# EAGLE library part 482020514001 (library 482020514001)
Mechanical Incremental Encoder Switch, 2 Source: Datasheet <http://uk.rs-online.com/web/p/products/1854446P>
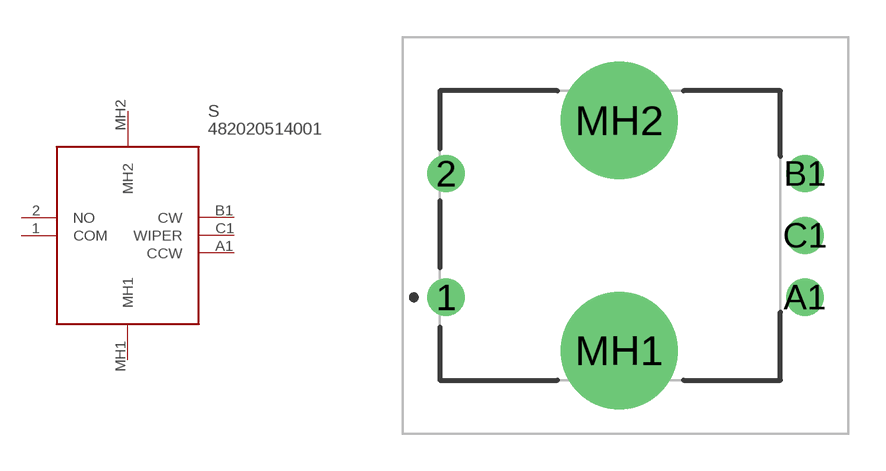
[diagram p0: symbol with the pads of 482020514001; footprint 482020514001]

Designator prefix S

## 482020514001 (Description: Mechanical Incremental Encoder Switch, 2; Height: 26.9mm; Manufacturer_Name: Wurth Elektronik; Manufacturer_Part_Number: 482020514001; RS_Part_Number: 1854446P; RS_Price-Stock: http://uk.rs-online.com/web/p/products/1854446P)  [482020514001]
1  COM
2  NO
A1  CCW
B1  CW
C1  WIPER
MH1  MH1
MH2  MH2

## Footprint 482020514001 (pad centres in mm)
482020514001-1
drill 1 pad 1.5: 1 0,0; 2 0,5; A1 14.5,0; B1 14.5,5; C1 14.5,2.5
drill 3.16 pad 4.74: MH1 7,-2.15; MH2 7,7.15